# EAGLE library part MB90540 (library micro-fujitsu)
MICROCONTROLLER/MEMORY DEVICE
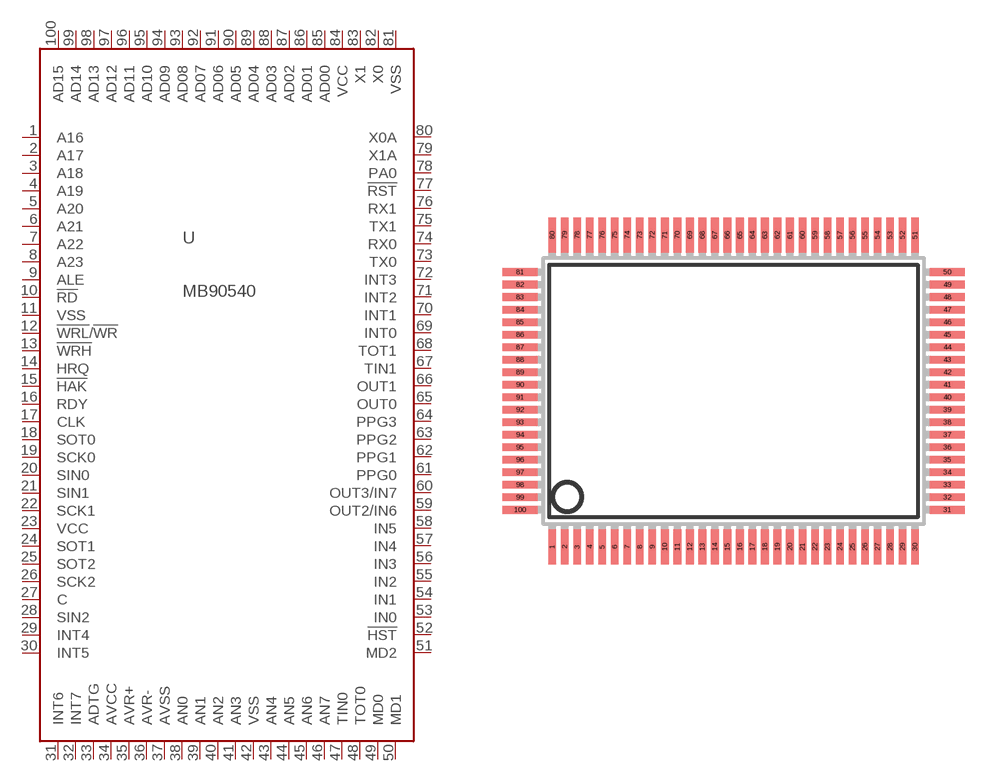
[diagram p71: symbol with the pads of QFP100; footprint QFP100]

Designator prefix U

## MB90540  [QFP100]
1  A16
2  A17
3  A18
4  A19
5  A20
6  A21
7  A22
8  A23
9  ALE  out
10  !RD!
11  VSS  pwr
12  !WRL!/!WR!
13  !WRH!
14  HRQ
15  !HAK!
16  RDY
17  CLK
18  SOT0
19  SCK0
20  SIN0
21  SIN1
22  SCK1
23  VCC  pwr
24  SOT1
25  SOT2
26  SCK2
27  C  in
28  SIN2
29  INT4
30  INT5
31  INT6
32  INT7
33  ADTG
34  AVCC  pwr
35  AVR+  pwr
36  AVR-  pwr
37  AVSS  pwr
38  AN0
39  AN1
40  AN2
41  AN3
42  VSS  pwr
43  AN4
44  AN5
45  AN6
46  AN7
47  TIN0
48  TOT0
49  MD0  in
50  MD1  in
51  MD2  in
52  !HST!  in
53  IN0
54  IN1
55  IN2
56  IN3
57  IN4
58  IN5
59  OUT2/IN6
60  OUT3/IN7
61  PPG0
62  PPG1
63  PPG2
64  PPG3
65  OUT0
66  OUT1
67  TIN1
68  TOT1
69  INT0
70  INT1
71  INT2
72  INT3
73  TX0
74  RX0
75  TX1
76  RX1
77  !RST!  in
78  PA0
79  X1A  in
80  X0A  in
81  VSS  pwr
82  X0  in
83  X1  in
84  VCC  pwr
85  AD00
86  AD01
87  AD02
88  AD03
89  AD04
90  AD05
91  AD06
92  AD07
93  AD08
94  AD09
95  AD10
96  AD11
97  AD12
98  AD13
99  AD14
100  AD15

## Footprint QFP100 (pad centres in mm)
Quad Flat Pack
smd 0.4 x 1.8: 1 -9.425,-8.1; 2 -8.775,-8.1; 3 -8.125,-8.1; 4 -7.475,-8.1; 5 -6.825,-8.1; 6 -6.175,-8.1; 7 -5.525,-8.1; 8 -4.875,-8.1; 9 -4.225,-8.1; 10 -3.575,-8.1; 11 -2.925,-8.1; 12 -2.275,-8.1; 13 -1.625,-8.1; 14 -0.975,-8.1; 15 -0.325,-8.1; 16 0.325,-8.1; 17 0.975,-8.1; 18 1.625,-8.1; 19 2.275,-8.1; 20 2.925,-8.1; 21 3.575,-8.1; 22 4.225,-8.1; 23 4.875,-8.1; 24 5.525,-8.1; 25 6.175,-8.1; 26 6.825,-8.1; 27 7.475,-8.1; 28 8.125,-8.1; 29 8.775,-8.1; 30 9.425,-8.1; 51 9.425,8.1; 52 8.775,8.1; 53 8.125,8.1; 54 7.475,8.1; 55 6.825,8.1; 56 6.175,8.1; 57 5.525,8.1; 58 4.875,8.1; 59 4.225,8.1; 60 3.575,8.1; 61 2.925,8.1; 62 2.275,8.1; 63 1.625,8.1; 64 0.975,8.1; 65 0.325,8.1; 66 -0.325,8.1; 67 -0.975,8.1; 68 -1.625,8.1; 69 -2.275,8.1; 70 -2.925,8.1; 71 -3.575,8.1; 72 -4.225,8.1; 73 -4.875,8.1; 74 -5.525,8.1; 75 -6.175,8.1; 76 -6.825,8.1; 77 -7.475,8.1; 78 -8.125,8.1; 79 -8.775,8.1; 80 -9.425,8.1
smd 1.8 x 0.4: 31 11.1,-6.175; 32 11.1,-5.525; 33 11.1,-4.875; 34 11.1,-4.225; 35 11.1,-3.575; 36 11.1,-2.925; 37 11.1,-2.275; 38 11.1,-1.625; 39 11.1,-0.975; 40 11.1,-0.325; 41 11.1,0.325; 42 11.1,0.975; 43 11.1,1.625; 44 11.1,2.275; 45 11.1,2.925; 46 11.1,3.575; 47 11.1,4.225; 48 11.1,4.875; 49 11.1,5.525; 50 11.1,6.175; 81 -11.1,6.175; 82 -11.1,5.525; 83 -11.1,4.875; 84 -11.1,4.225; 85 -11.1,3.575; 86 -11.1,2.925; 87 -11.1,2.275; 88 -11.1,1.625; 89 -11.1,0.975; 90 -11.1,0.325; 91 -11.1,-0.325; 92 -11.1,-0.975; 93 -11.1,-1.625; 94 -11.1,-2.275; 95 -11.1,-2.925; 96 -11.1,-3.575; 97 -11.1,-4.225; 98 -11.1,-4.875; 99 -11.1,-5.525; 100 -11.1,-6.175